# EAGLE library part DF9-41P-1V(32) (library work)
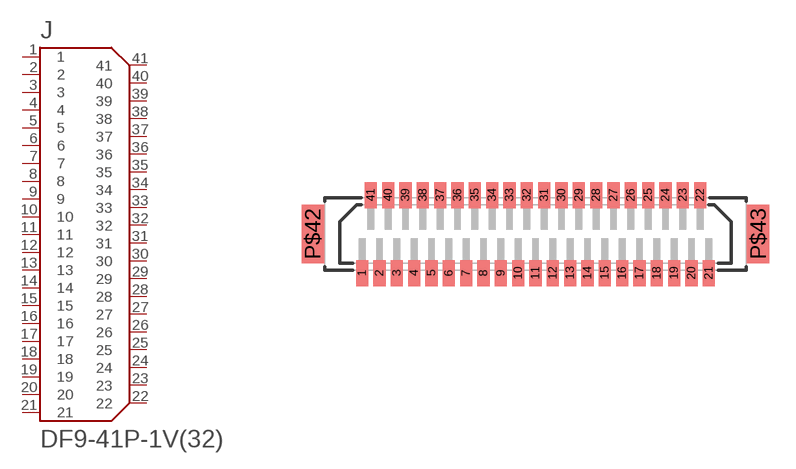
[diagram p59: symbol with the pads of DF9-41P-1V(32); footprint DF9-41P-1V(32)]

Designator prefix J

## DF9-41P-1V(32)  [DF9-41P-1V(32)]
1  1
2  2
3  3
4  4
5  5
6  6
7  7
8  8
9  9
10  10
11  11
12  12
13  13
14  14
15  15
16  16
17  17
18  18
19  19
20  20
21  21
22  22
23  23
24  24
25  25
26  26
27  27
28  28
29  29
30  30
31  31
32  32
33  33
34  34
35  35
36  36
37  37
38  38
39  39
40  40
41  41

## Footprint DF9-41P-1V(32) (pad centres in mm)
smd 0.7 x 1.5: 1 -10,-2.25; 2 -9,-2.25; 3 -8,-2.25; 4 -7,-2.25; 5 -6,-2.25; 6 -5,-2.25; 7 -4,-2.25; 8 -3,-2.25; 9 -2,-2.25; 10 -1,-2.25; 11 0,-2.25; 12 1,-2.25; 13 2,-2.25; 14 3,-2.25; 15 4,-2.25; 16 5,-2.25; 17 6,-2.25; 18 7,-2.25; 19 8,-2.25; 20 9,-2.25; 21 10,-2.25; 22 9.5,2.25; 23 8.5,2.25; 24 7.5,2.25; 25 6.5,2.25; 26 5.5,2.25; 27 4.5,2.25; 28 3.5,2.25; 29 2.5,2.25; 30 1.5,2.25; 31 0.5,2.25; 32 -0.5,2.25; 33 -1.5,2.25; 34 -2.5,2.25; 35 -3.5,2.25; 36 -4.5,2.25; 37 -5.5,2.25; 38 -6.5,2.25; 39 -7.5,2.25; 40 -8.5,2.25; 41 -9.5,2.25
smd 1.3 x 3.4: P$42 -12.85,0; P$43 12.85,0